# Altium footprint library pinheader_P20R2.PcbLib: 1 footprints
Each footprint in its own frame and in the unit in brackets; x right, y up, seen from the top. Pads: shape width x height; smd on the part's side, far side on the other; paste and mask are expansions set on the pad; w line width, h text height; cw(c..) or ccw(c..) is an arc to the next point about the centre after c.
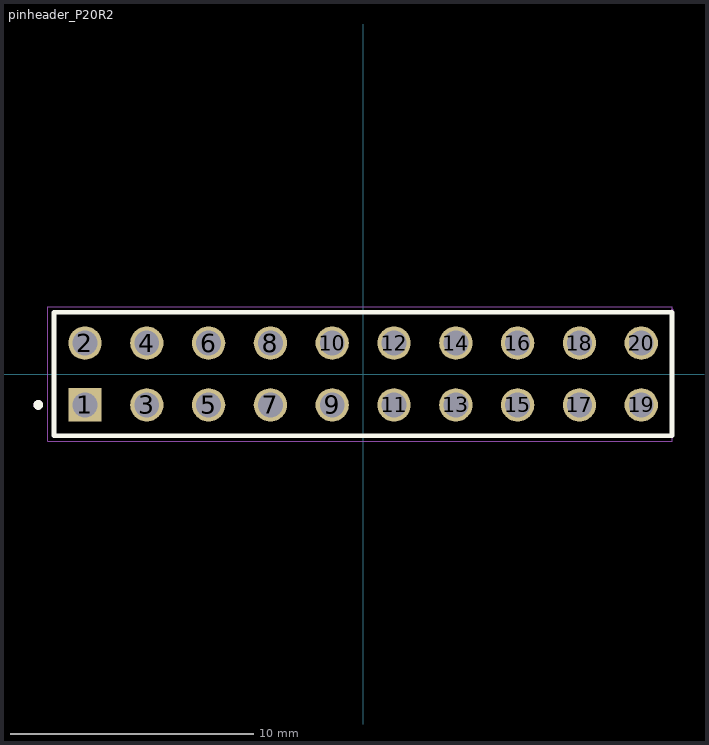
[diagram p0: the footprint, top view; thin cyan lines are the x and y axes]

## pinheader_P20R2 [mm]
pads (20):
  rect 1.37x1.37 hole 1.02: 1(-11.43,-1.27)
  round 1.37 hole 1.02: 2(-11.43,1.27) 3(-8.89,-1.27) 4(-8.89,1.27) 5(-6.35,-1.27) 6(-6.35,1.27) 7(-3.81,-1.27) 8(-3.81,1.27) 9(-1.27,-1.27) 10(-1.27,1.27) 11(1.27,-1.27) 12(1.27,1.27) 13(3.81,-1.27) 14(3.81,1.27) 15(6.35,-1.27) 16(6.35,1.27) 17(8.89,-1.27) 18(8.89,1.27) 19(11.43,-1.27) 20(11.43,1.27)
Top Overlay:
  circle w0.2: c-13.35,-1.27 r0.1
  lines w0.2: -12.7,-2.54 -12.7,2.54 12.7,2.54 12.7,-2.54 -12.7,-2.54
Mechanical 13:
  circle w0.2: c-13.35,-1.27 r0.1
  lines w0.1: 12.7,-2.515 -12.7,-2.515 -12.7,2.515 12.7,2.515 ; 12.7,-2.388 12.7,2.642
Mechanical 15:
  lines w0.05: -12.95,-2.765 -12.95,2.765 12.7,2.765 12.7,-2.765 -12.95,-2.765
3D body "TSW-110-07-G-D.stp": height 8.38, standoff -2.54, extent -12.7,-2.54 12.7,2.54